# EAGLE library part IC_RDA5807 (library akita)
RDA5807, one-chip FM radio
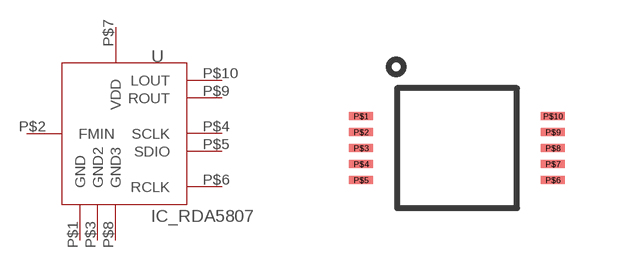
[diagram p185: symbol with the pads of TSOP10_04MM; footprint TSOP10_04MM]

Designator prefix U

## IC_RDA5807  [TSOP10_04MM]
P$1  GND
P$2  FMIN
P$3  GND2
P$4  SCLK
P$5  SDIO
P$6  RCLK
P$7  VDD
P$8  GND3
P$9  ROUT
P$10  LOUT

## Footprint TSOP10_04MM (pad centres in mm)
TSSOP10, 0.4mm pitch
smd 0.6 x 0.2: P$1 -2.4,0.8; P$2 -2.4,0.4; P$3 -2.4,0; P$4 -2.4,-0.4; P$5 -2.4,-0.8; P$6 2.4,-0.8; P$7 2.4,-0.4; P$8 2.4,0; P$9 2.4,0.4; P$10 2.4,0.8